# EAGLE library part AD725 (library F030NG)
TV out driver / Analog devices AD725
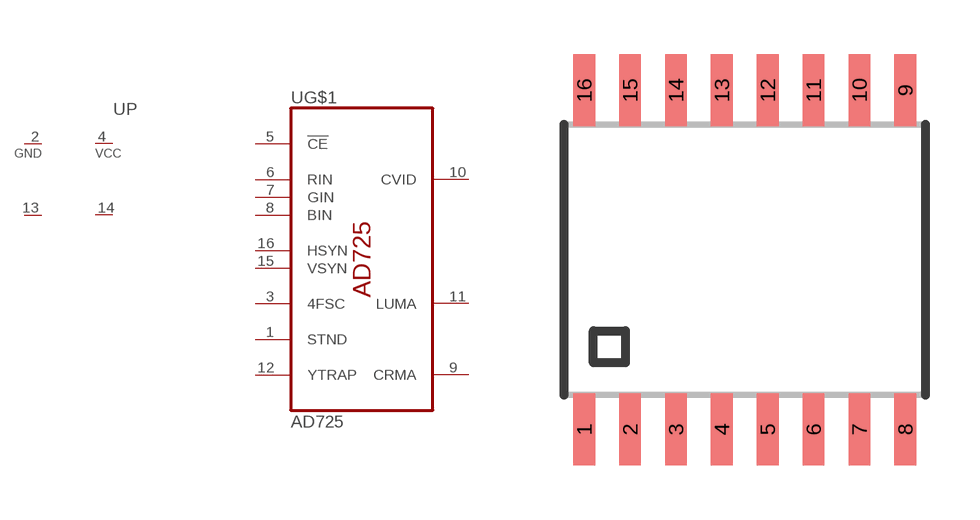
[diagram p82: symbol with the pads of SOIC16; footprint SOIC16]

Designator prefix U; gates G$1=AD725 P=2VCC_2GND

## AD725D  [SOIC16]
1  G$1:STND  pas
2  P:GND  pwr
3  G$1:4FSC  pas
4  P:VCC  pwr
5  G$1:!CE  in
6  G$1:RIN  in
7  G$1:GIN  in
8  G$1:BIN  in
9  G$1:CRMA  out
10  G$1:CVID  out
11  G$1:LUMA  out
12  G$1:YTRAP  pas
13  P:GND  pwr
14  P:VCC  pwr
15  G$1:VSYN  in
16  G$1:HSYN  in

## Footprint SOIC16 (pad centres in mm)
SMALL OUTLINE INTEGRATED CIRCUIT 7,6 mm wide body
smd 0.6 x 2: 1 -4.445,-4.699; 2 -3.175,-4.699; 3 -1.905,-4.699; 4 -0.635,-4.699; 5 0.635,-4.699; 6 1.905,-4.699; 7 3.175,-4.699; 8 4.445,-4.699; 9 4.445,4.699; 10 3.175,4.699; 11 1.905,4.699; 12 0.635,4.699; 13 -0.635,4.699; 14 -1.905,4.699; 15 -3.175,4.699; 16 -4.445,4.699